# Altium schematic symbol library Schlib1.SchLib: 1 symbol
Pins are listed as number, name and electrical type; pins without a type are passive.

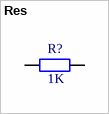
[diagram p0: symbol Res]

## Res
designator R?, comment 1K
footprint R1206
pins: 1, 2
1 alternate drawing of the same symbol